# Altium footprint library on-semi-packages.PcbLib: 19 footprints (part 2 of 2)
Each footprint in its own frame and in the unit in brackets; x right, y up, seen from the top. Pads: shape width x height; smd on the part's side, far side on the other; paste and mask are expansions set on the pad; w line width, h text height; cw(c..) or ccw(c..) is an arc to the next point about the centre after c.
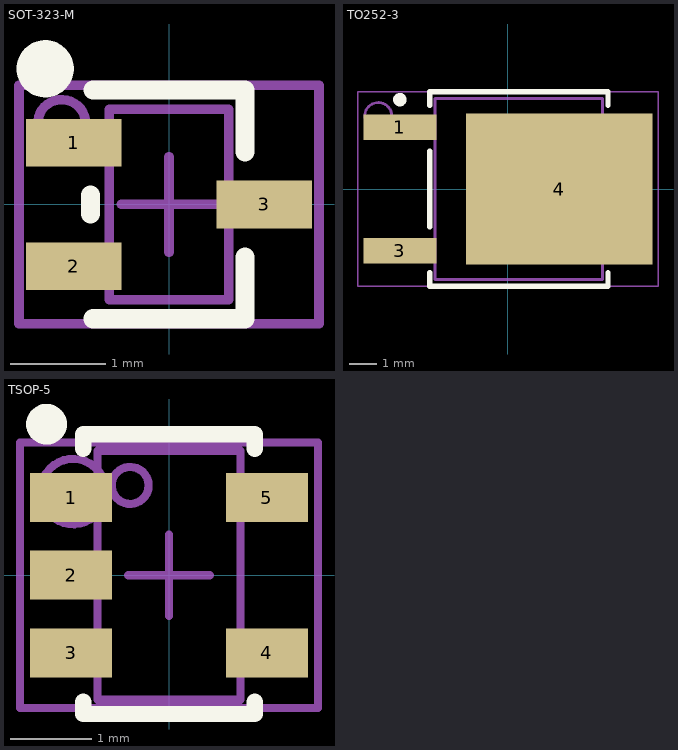
[diagram p1: the footprints below, top view; thin cyan lines are the x and y axes]

## SOT-323-M [mm] "6-Lead Plastic surface-mounted package, 0.65mm pitch, SOT363/SC-88"
height 1.1
pads (3):
  rect 1x0.5 smd: 1(-1,0.65) 2(-1,-0.65) 3(1,0)
Top Overlay:
  circle w0.3: c-1.3,1.425 r0.15
  lines w0.2: -0.825,-0.1 -0.825,0.1 ; -0.8,-1.2 0.8,-1.2 0.8,-0.55 ; -0.8,1.2 0.8,1.2 0.8,0.55
Mechanical 13:
  lines w0.1: -0.5,0 0.5,0 ; 0,-0.5 0,0.5 ; -0.625,-1 0.625,-1 0.625,1 -0.625,1 -0.625,-1
Mechanical 15:
  circle w0.1: c-1.126,0.85 r0.251
  lines w0.1: -1.575,-1.25 1.575,-1.25 1.575,1.25 -1.575,1.25 -1.575,-1.25
  text ".Designator" at -0.2,1.125 h0.8
3D body "User Library-SC-70.STEP": height 1.13, standoff 0.02, extent -1.125,-1.125 1.125,1.125

## TO252-3 [mm] "D-PAK, 3-Pads, Body 6.20x6.72mm (max), IPC Medium Density"
height 2.38
pads (3):
  rect 2.7x0.95 smd: 1(-4,2.28) 3(-4,-2.28)
  rect 6.9x5.6 smd: 4(1.9,0)
Top Overlay:
  circle w0.25: c-4,3.305 r0.125
  lines w0.2: -2.9,-3.1 -2.9,-3.6 3.7,-3.6 3.7,-3.1 ; -2.9,-1.4 -2.9,1.4 ; -2.9,3.1 -2.9,3.6 3.7,3.6 3.7,3.1
Mechanical 13:
  lines w0.1: -0.5,0 0.5,0 ; 0,-0.5 0,0.5 ; -2.7,-3.35 3.5,-3.35 3.5,3.35 -2.7,3.35 -2.7,-3.35
Mechanical 15:
  circle w0.1: c-4.8,2.7 r0.5
  lines w0.05: -5.55,-3.6 5.55,-3.6 5.55,3.6 -5.55,3.6 -5.55,-3.6
  text ".Designator" at 0.2,-2.125 h0.5
3D body "User Library-DPAK-1.step": height 2.39, standoff -0.02, extent -4.938,-3.27 5,3.27

## TSOP-5 [mm] "SOT23, 5-Leads, Body 3.0x3.0mm (max), Pitch 0.95mm, IPC High Density"
height 1.45
pads (5):
  rect 1x0.6 smd: 1(-1.2,0.95) 2(-1.2,0) 3(-1.2,-0.95) 4(1.2,-0.95) 5(1.2,0.95)
Top Overlay:
  circle w0.25: c-1.5,1.85 r0.125
  lines w0.2: -1.05,-1.55 -1.05,-1.7 1.05,-1.7 1.05,-1.55 ; -1.05,1.55 -1.05,1.725 1.05,1.725 1.05,1.55
Mechanical 13:
  circle w0.1: c-0.476,1.1 r0.226
  lines w0.1: -0.5,0 0.5,0 ; 0,-0.5 0,0.5 ; -0.875,-1.525 -0.875,1.525 0.875,1.525 0.875,-1.525 -0.875,-1.525
Mechanical 15:
  circle w0.1: c-1.175,1.025 r0.4
  lines w0.1: -1.825,-1.625 -1.825,1.625 1.825,1.625 1.825,-1.625 -1.825,-1.625
  text ".Designator" at 0.225,-1.3 h0.5
3D body "SW3DPS-SOT-23-5-DEFAULT.STEP": height 1.09, standoff -0.01, extent -1.25,-1.5 1.25,1.5